# EAGLE library part 93LC86-I/SN (library Microchip_By_element14_Batch_1)
8K/16K 2.5V Microwire Serial EEPROM
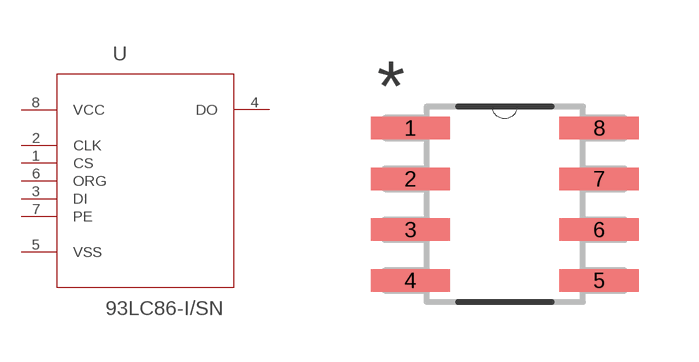
[diagram p265: symbol with the pads of SOIC127P600X175-8N; footprint SOIC127P600X175-8N]

Designator prefix -

## 93LC86-I/SN (DESCRIPTION: 8K/16K 2.5V Microwire Serial EEPROM; MPN: 93LC86-I/SN; OC_FARNELL: 1196821; OC_NEWARK: 96K4115; PACKAGE: SOIC-8; SUPPLIER: Microchip)  [SOIC127P600X175-8N]
1  CS  in
2  CLK  in
3  DI  in
4  DO  out
5  VSS  pwr
6  ORG  in
7  PE  in
8  VCC  pwr

## Footprint SOIC127P600X175-8N (pad centres in mm)
smd 1.981 x 0.559: 1 -2.362,1.905; 2 -2.362,0.635; 3 -2.362,-0.635; 4 -2.362,-1.905; 5 2.362,-1.905; 6 2.362,-0.635; 7 2.362,0.635; 8 2.362,1.905